# EAGLE library part RTC_DS3231 (library My_STM32)
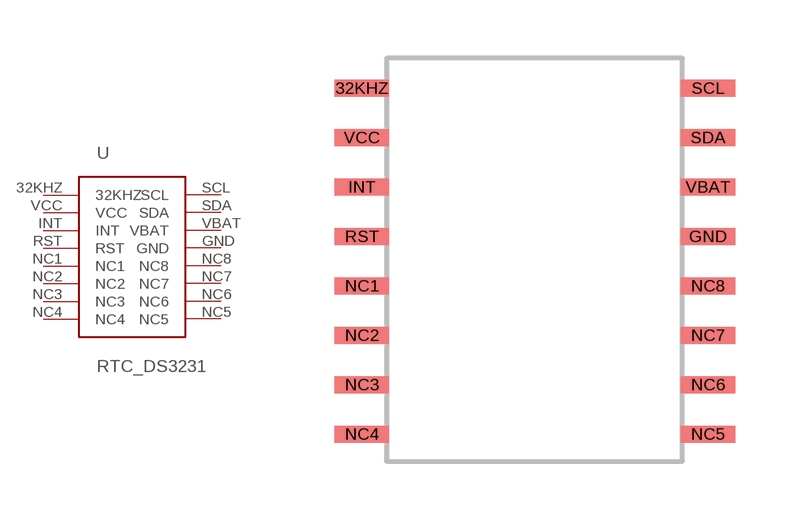
[diagram p0: symbol with the pads of RTC_DS3231; footprint RTC_DS3231]

Designator prefix -

## RTC_DS3231  [RTC_DS3231]
32KHZ  32KHZ
GND  GND
INT  INT
NC1  NC1
NC2  NC2
NC3  NC3
NC4  NC4
NC5  NC5
NC6  NC6
NC7  NC7
NC8  NC8
RST  RST
SCL  SCL
SDA  SDA
VBAT  VBAT
VCC  VCC

## Footprint RTC_DS3231 (pad centres in mm)
smd 1.4 x 0.44: 32KHZ -5.08,5.08; GND 3.81,1.27; INT -5.08,2.54; NC1 -5.08,0; NC2 -5.08,-1.27; NC3 -5.08,-2.54; NC4 -5.08,-3.81; NC5 3.81,-3.81; NC6 3.81,-2.54; NC7 3.81,-1.27; NC8 3.81,0; RST -5.08,1.27; SCL 3.81,5.08; SDA 3.81,3.81; VBAT 3.81,2.54; VCC -5.08,3.81